# Altium footprint library SidePanel.PcbLib: 1 footprints
Each footprint in its own frame and in the unit in brackets; x right, y up, seen from the top. Pads: shape width x height; smd on the part's side, far side on the other; paste and mask are expansions set on the pad; w line width, h text height; cw(c..) or ccw(c..) is an arc to the next point about the centre after c.
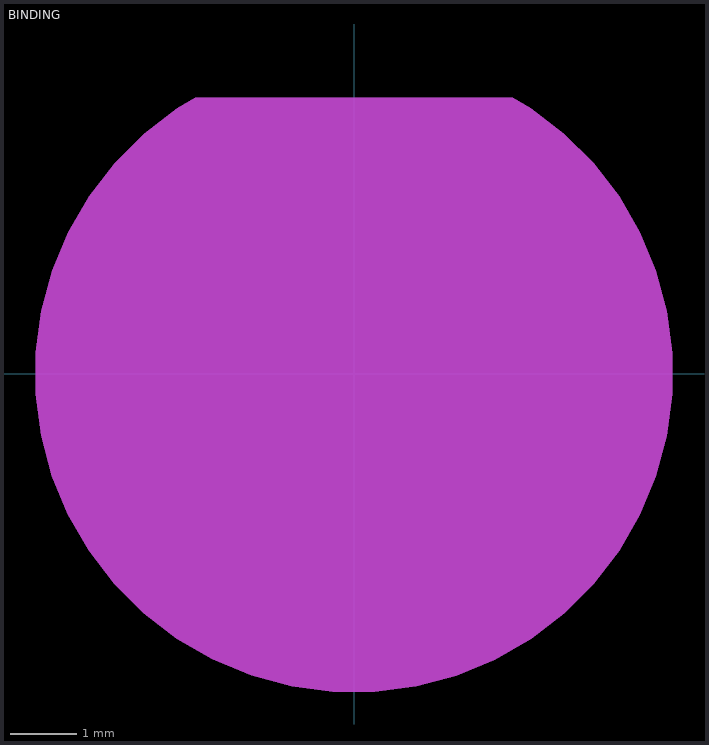
[diagram p0: the footprint, top view; thin cyan lines are the x and y axes]

## BINDING [mm]
Keep-Out Layer:
  board cut-out: -2.389,4.15 -2.661,3.993 -3.159,3.612 -3.604,3.168 -3.987,2.67 -4.301,2.127 -4.542,1.547 -4.705,0.941 -4.788,0.319 -4.789,-0.309 -4.707,-0.932 -4.545,-1.539 -4.305,-2.119 -3.992,-2.663 -3.61,-3.161 -3.166,-3.606 -2.669,-3.988 -2.125,-4.302 -1.545,-4.543 -0.939,-4.706 -0.316,-4.788 0.312,-4.788 0.934,-4.707 1.541,-4.544 2.121,-4.304 2.665,-3.991 3.163,-3.609 3.607,-3.165 3.989,-2.667 4.303,-2.123 4.544,-1.543 4.706,-0.936 4.788,-0.314 4.788,0 4.788,0.314 4.706,0.937 4.543,1.544 4.303,2.125 3.988,2.669 3.605,3.167 3.16,3.611 2.661,3.993 2.389,4.15 2.388,4.15 2.386,4.151 2.385,4.151 2.383,4.152 2.382,4.152 -2.382,4.152 -2.383,4.152 -2.385,4.151 -2.386,4.151 -2.388,4.15
Board Shape:
  region: -2.389,4.15 -2.661,3.993 -3.159,3.612 -3.604,3.168 -3.987,2.67 -4.301,2.127 -4.542,1.547 -4.705,0.941 -4.788,0.319 -4.789,-0.309 -4.707,-0.932 -4.545,-1.539 -4.305,-2.119 -3.992,-2.663 -3.61,-3.161 -3.166,-3.606 -2.669,-3.988 -2.125,-4.302 -1.545,-4.543 -0.939,-4.706 -0.316,-4.788 0.312,-4.788 0.934,-4.707 1.541,-4.544 2.121,-4.304 2.665,-3.991 3.163,-3.609 3.607,-3.165 3.989,-2.667 4.303,-2.123 4.544,-1.543 4.706,-0.936 4.788,-0.314 4.788,0 4.788,0.314 4.706,0.937 4.543,1.544 4.303,2.125 3.988,2.669 3.605,3.167 3.16,3.611 2.661,3.993 2.389,4.15 2.388,4.15 2.386,4.151 2.385,4.151 2.383,4.152 2.382,4.152 -2.382,4.152 -2.383,4.152 -2.385,4.151 -2.386,4.151 -2.388,4.15
  lines w0.025: -2.382,4.139 ccw(c0,0) 2.382,4.139 -2.382,4.139
3D body: height 20.57, standoff 0, extent -5.588,-5.588 5.588,5.588